# Altium footprint library DIP8.PcbLib: 3 footprints
Each footprint in its own frame and in the unit in brackets; x right, y up, seen from the top. Pads: shape width x height; smd on the part's side, far side on the other; paste and mask are expansions set on the pad; w line width, h text height; cw(c..) or ccw(c..) is an arc to the next point about the centre after c.
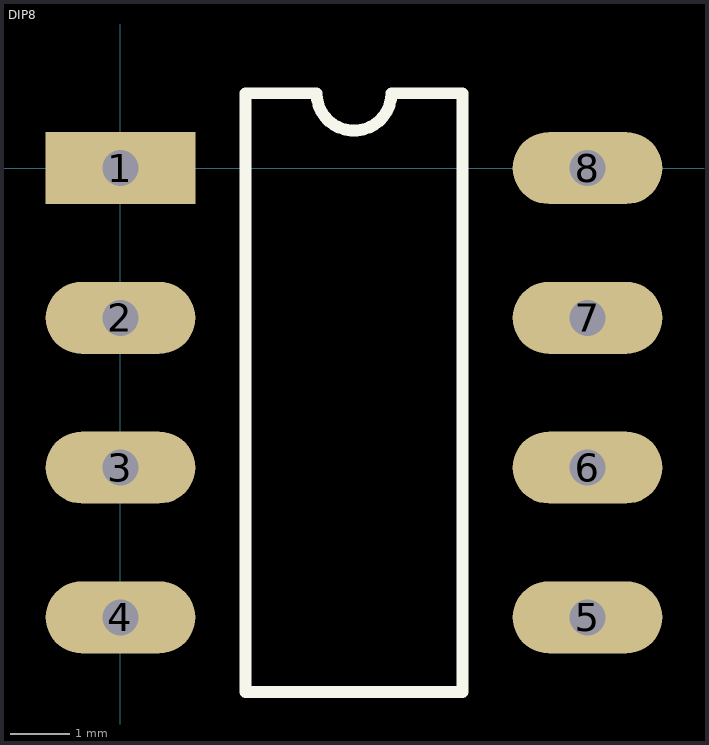
[diagram p0: the footprints below, top view; thin cyan lines are the x and y axes]

## DIP8 [mm]
pads (8):
  rect 2.5x1.2 hole 0.6: 1(0,0)
  oval 2.5x1.2 hole 0.6: 2(0,-2.5) 3(0,-5) 4(0,-7.5) 5(7.8,-7.5) 6(7.8,-5) 7(7.8,-2.5) 8(7.8,0)
Top Overlay:
  lines w0.2: 2.085,-8.75 2.085,1.25 3.275,1.25 ccw(c3.9,1.25) 4.525,1.25 5.715,1.25 5.715,-8.75 2.085,-8.75

## PCBComponent_1 [mm]

## PCBComponent_1 - duplicate [mm]